# Altium schematic symbol library PMIC.SchLib: 38 symbols
Pins are listed as number, name and electrical type; pins without a type are passive.

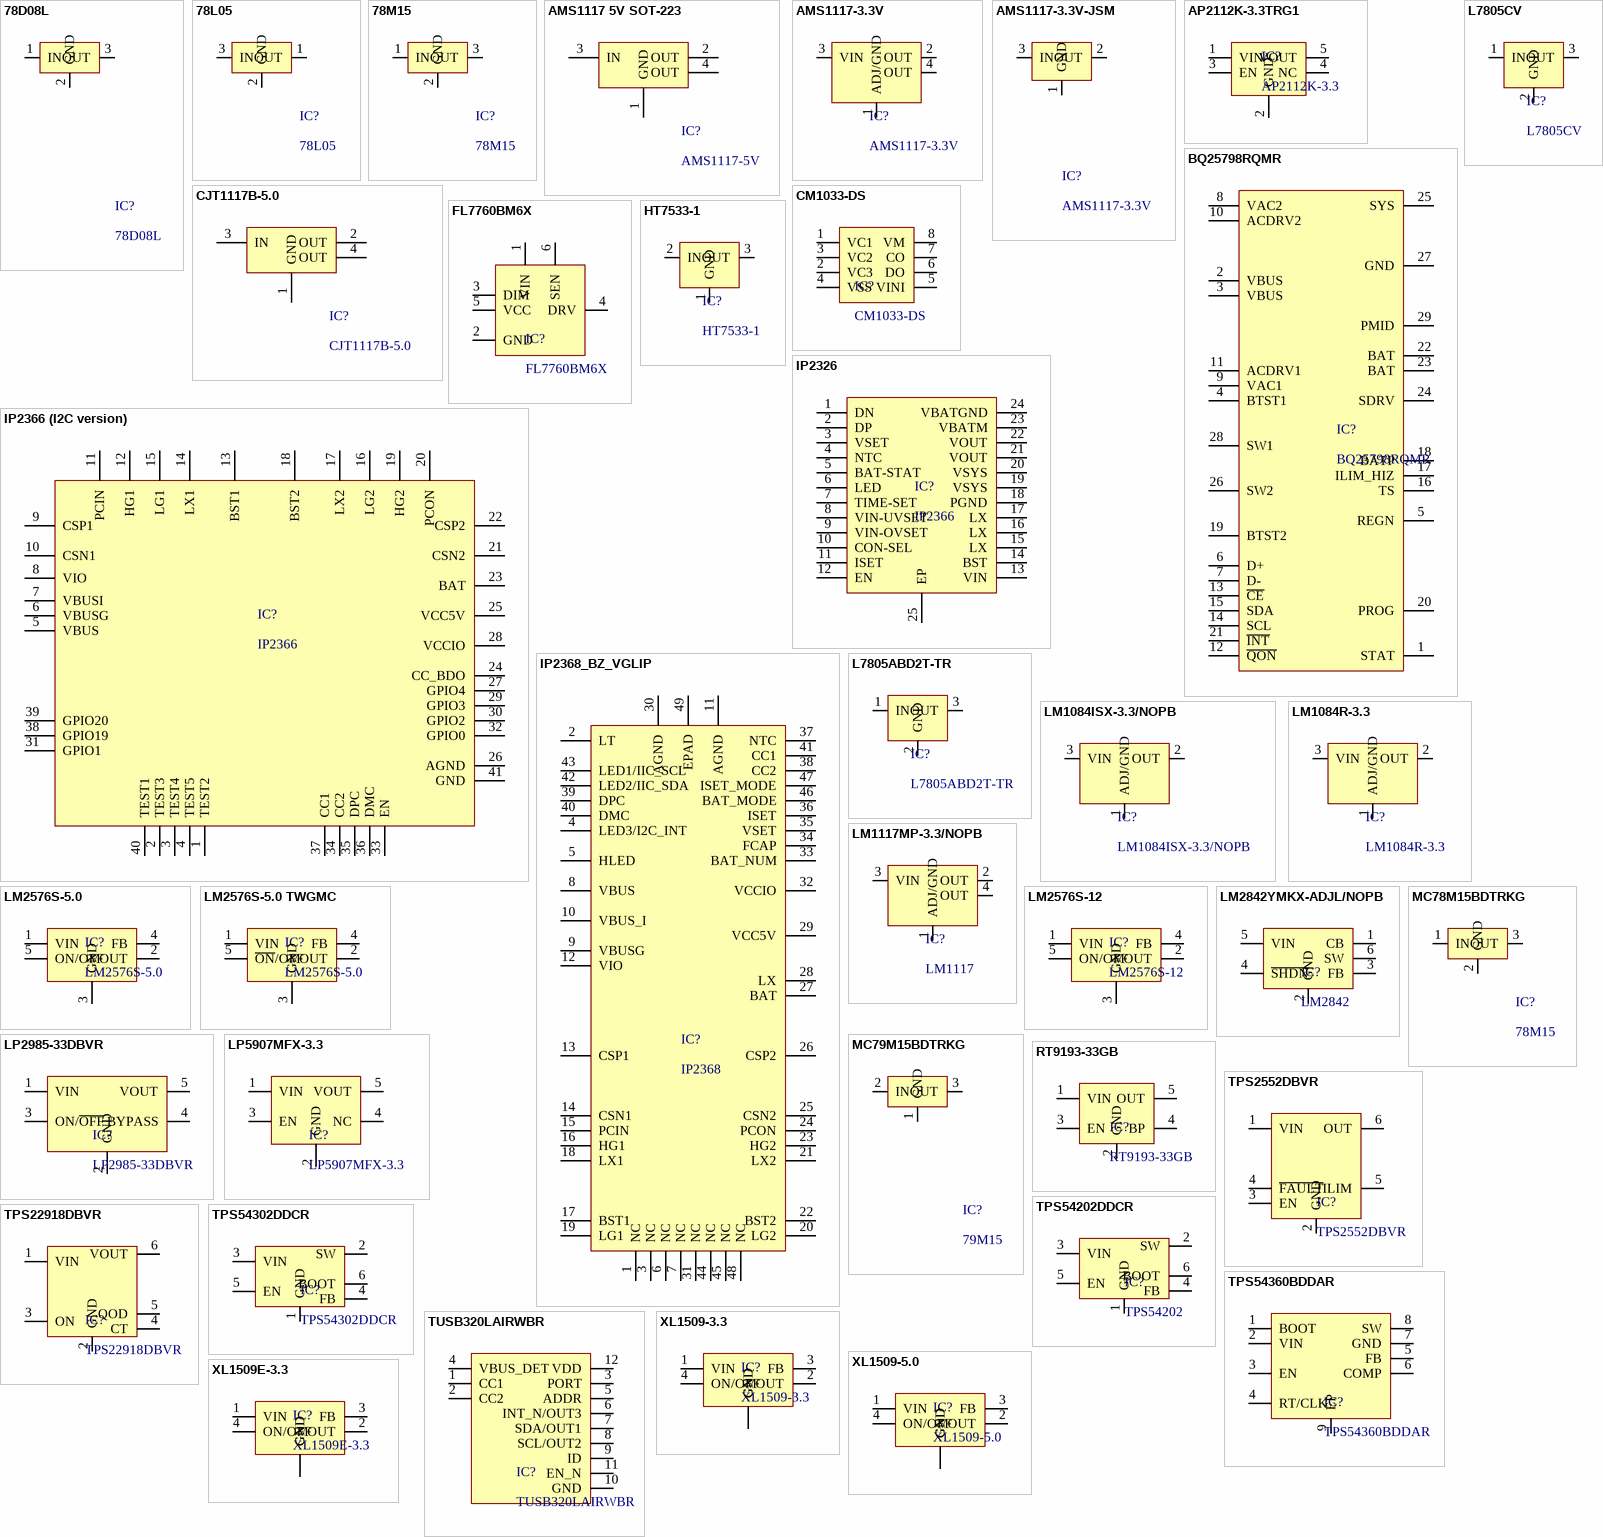
[diagram p0: symbols 78D08L to XL1509E-3.3]

## 78D08L
designator IC?
80dB@(120Hz) 1A Fixed 8V Positive 23V TO-252-2 Voltage Regulators - Linear, Low Drop Out (LDO) Regulators ROHS; Manufacturer: UMW; Mfr.Part #: 78D08L; Package: TO-252-2; LCSC Part #: C347286
footprint TO-252
pins: 1 IN, 2 GND, 3 OUT

## 78L05
designator IC?
100mA Fixed 5V Positive electrode 30V SOT-89 Voltage Regulators - Linear, Low Drop Out (LDO) Regulators ROHS; Manufacturer: MSKSEMI; Mfr.Part #: MS78L05; So_Chan_Dan: 3; So_Chan_Cam: 0; Name: 78L05; ComponentLink1Description: New link; ComponentLink1URL: https://www.lcsc.com/datasheet/lcsc_datasheet_2311231510_MSKSEMI-AMS1117-5-0V_C7473143.pdf; Package: SOT-89
footprint SOT-89
pins: 1 OUT, 2 GND, 3 IN

## 78M15
designator IC?
70dB@(120Hz) 1A Fixed 15V 35V TO-252 Voltage Regulators - Linear, Low Drop Out (LDO) Regulators ROHS; Manufacturer: UMW(Youtai Semiconductor Co., Ltd.); Mfr.Part #: 78M15; Package: TO-252
footprint TO-252
pins: 1 IN, 2 GND, 3 OUT

## AMS1117 5V SOT-223
designator IC?, comment AMS1117-5V
1A Fixed 5V Positive electrode 15V SOT-223 Voltage Regulators - Linear, Low Drop Out (LDO) Regulators ROHS; Manufacturer: MSKSEMI; Mfr.Part #: AMS1117-5.0(MS); So_Chan_Dan: 4; So_Chan_Cam: 0; Name: AMS1117-5.0(MS); ComponentLink1Description: New link; ComponentLink1URL: https://www.lcsc.com/product-detail/Voltage-Regulators-Linear-Low-Drop-Out-LDO-Regulators_MSKSEMI-AMS1117-5-0-MS_C20538892.html; Package: SOT-223
footprint SOT-223
pins: 1 GND, 2 OUT, 3 IN, 4 OUT

## AMS1117-3.3V
designator IC?
Linear Voltage Regulator IC Positive Fixed 1 Output 1A SOT-223; Manufacturer: MSKSEMI; Mfr.Part #: AMS1117-3.3V; Package: SOT-223; LCSC Part #: C5120765; DigiKey Part Number: NO; ComponentLink1Description: Link; ComponentLink1URL: https://www.lcsc.com/product-detail/C5120765.html?s_z=n_C5120765
footprint SOT-223
pins: 1 ADJ/GND, 2 OUT, 3 VIN, 4 OUT

## AMS1117-3.3V-JSM
designator IC?, comment AMS1117-3.3V
3.3V 15V Positive Fixed SOT-89 Voltage Regulators - Linear, Low Drop Out (LDO) Regulators RoHS; Manufacturer: JSMSEMI; Mfr.Part #: AMS1117-3.3V-JSM; LCSC Part #: C18190088; ComponentLink1Description: Link; ComponentLink1URL: https://www.lcsc.com/product-detail/C18190088.html?s_z=n_C18190088; Package: SOT-89; DigiKey Part Number: NO; ComponentLink2Description: Link 1; ComponentLink2URL: *
footprint SOT-89
pins: 1 GND, 2 OUT, 3 IN

## AP2112K-3.3TRG1
designator IC?, comment AP2112K-3.3
65dB@(1kHz) 600mA Fixed 3.3V Positive 6V SOT-25-5 Voltage Regulators - Linear, Low Drop Out (LDO) Regulators ROHS; Manufacturer: Diodes Incorporated; Mfr.Part #: AP2112K-3.3TRG1; Package: SOT-25-5; LCSC Part #: C51118
footprint SOT25-5
pins: 1 VIN, 2 GND, 3 EN, 4 NC, 5 VOUT

## BQ25798RQMR
designator IC?
Battery Charging IC Lithium Battery QFN-29(4x4); Manufacturer: TI; Package: QFN-29(4x4); LCSC Part #: C2876593; Mfr.Part #: BQ25798RQMR; DigiKey Part Number: 296-BQ25798RQMRTR-ND; ComponentLink1Description: Link; ComponentLink1URL: https://www.lcsc.com/product-detail/C2876593.html?s_z=n_BQ25798RQMR; ComponentLink2Description: Link 1; ComponentLink2URL: https://www.digikey.com/en/products/detail/texas-instruments/BQ25798RQMR/15666783?s=N4IgTCBcDaIEIEUwFYDsBOAHAJQQWRAF0BfIA
footprint 29-VQFN-HR (4x4)
pins: 1 STAT, 2 VBUS, 3 VBUS, 4 BTST1, 5 REGN, 6 D+, 7 D-, 8 VAC2, 9 VAC1, 10 ACDRV2, 11 ACDRV1, 12 ~{QON}, 13 ~{CE}, 14 SCL, 15 SDA, 16 TS, 17 ILIM_HIZ, 18 BATP, 19 BTST2, 20 PROG, 21 ~{INT}, 22 BAT, 23 BAT, 24 SDRV, 25 SYS, 26 SW2, 27 GND, 28 SW1, 29 PMID

## CJT1117B-5.0
designator IC?
75dB@(1kHz) 1A Fixed 5V Positive electrode 12V SOT-223 Voltage Regulators - Linear, Low Drop Out (LDO) Regulators ROHS; Manufacturer: Jiangsu Changjing Electronics Technology Co., Ltd.; Name: AMS1117-5.0(MS); So_Chan_Dan: 4; So_Chan_Cam: 0; Mfr.Part #: CJT1117B-5.0; ComponentLink1Description: New link; ComponentLink1URL: https://www.lcsc.com/product-detail/Voltage-Regulators-Linear-Low-Drop-Out-LDO-Regulators_Jiangsu-Changjing-Electronics-Technology-Co-Ltd-CJT1117B-5-0_C89273.html?s_z=n_CJT1117B; Package: SOT-223
footprint SOT-223
pins: 1 GND, 2 OUT, 3 IN, 4 OUT

## CM1033-DS
designator IC?
SOP-8 Battery Management ICs ROHS; Manufacturer: iCM; Mfr.Part #: CM1033-DS; Package: SOT-23-5; JLCPCB Part #: C2685513
footprint SOIC-8
pins: 1 VC1, 2 VC3, 3 VC2, 4 VSS, 5 VINI, 6 DO, 7 CO, 8 VM

## FL7760BM6X
designator IC?
High-Side Sensing Constant Current Buck Controller for High Switching Frequency LED Driver; Manufacturer: onsemi; Mfr.Part #: FL7760BM6X; Package: SOT-23-6; LCSC Part #: C367388; DigiKey Part Number: FL7760BM6XOSTR-ND; ComponentLink1Description: Link; ComponentLink1URL: https://www.lcsc.com/product-detail/C367388.html?s_z=n_FL7760&spm=wm.ssy.bg.0.xh&lcsc_vid=QVhYA1deElkMBVEAQVVWVAECEVVXUAcCTgNYUQVSEVAxVlNRQ1hYVFBfTlhcXzsOAxUeFF5JWBYZEEoKFBINSQcJGk4eFQsCAgIaSgADAwAHC0slRlleUFNRQlhADxALGw%3D%3D; ComponentLink2Description: Link 1; ComponentLink2URL: https://www.digikey.com/en/products/detail/onsemi/FL7760BM6X/7804375?s=N4IgTCBcDaIGIBkDsSBsAGAQgWVQDRAF0BfIA
footprint SOT23-6
pins: 1 VIN, 2 GND, 3 DIM, 4 DRV, 5 VCC, 6 SEN

## HT7533-1
designator IC?
100mA Fixed 3.3V Positive electrode 30V SOT-89 Voltage Regulators - Linear, Low Drop Out (LDO) Regulators ROHS; Manufacturer: UMW(Youtai Semiconductor Co., Ltd.); So_Chan_Dan: 3; So_Chan_Cam: 0; Mfr.Part #: HT7533-1; Package: SOT-89; Name: HT7533-1
footprint SOT-89
pins: 1 GND, 2 IN, 3 OUT

## IP2326
designator IC?, comment IP2366
2~3 1.5A VQFN-24-EP(4x4) Battery Management RoHS; Manufacturer: INJOINIC; Mfr.Part #: IP2326; Package: VQFN-24-EP(4x4); LCSC Part #: C2832094; DigiKey Part Number: NO
footprint QFN-24-EP(4x4)
pins: 1 DN, 2 DP, 3 VSET, 4 NTC, 5 BAT-STAT, 6 LED, 7 TIME-SET, 8 VIN-UVSET, 9 VIN-OVSET, 10 CON-SEL, 11 ISET, 12 EN, 13 VIN, 14 BST, 15 LX, 16 LX, 17 LX, 18 PGND, 19 VSYS, 20 VSYS, 21 VOUT, 22 VOUT, 23 VBATM, 24 VBATGND, 25 EP

## IP2366 (I2C version)
designator IC?, comment IP2366
QFN-40(5x5) Power Management - Specialized ROHS; Manufacturer: INJOINIC; Mfr.Part #: IP2366 (I2C version); So_Chan_Dan: 40; So_Chan_Cam: 0; Package: QFN-40(5x5); Name: IP2366
footprint QFN-40(5x5)
pins: 1 TEST2, 2 TEST3, 3 TEST4, 4 TEST5, 5 VBUS, 6 VBUSG, 7 VBUSI, 8 VIO, 9 CSP1, 10 CSN1, 11 PCIN, 12 HG1, 13 BST1, 14 LX1, 15 LG1, 16 LG2, 17 LX2, 18 BST2, 19 HG2, 20 PCON, 21 CSN2, 22 CSP2, 23 BAT, 24 CC_BDO, 25 VCC5V, 26 AGND, 27 GPIO4, 28 VCCIO, 29 GPIO3, 30 GPIO2, 31 GPIO1, 32 GPIO0, 33 EN, 34 CC2, 35 DPC, 36 DMC, 37 CC1, 38 GPIO19, 39 GPIO20, 40 TEST1, 41 GND

## IP2368_BZ_VGLIP
designator IC?, comment IP2368
Power management chip that supports multiple fast charging input and output protocols, multiple series-connected battery cells, and integrates step-up/step-down drivers.; Manufacturer: INJOINIC; Mfr.Part #: IP2368_BZ_VGLIP; Package: QFN-48(7x7); LCSC Part #: C5203723; DigiKey Part Number: NO; ComponentLink1Description: Link; ComponentLink1URL: https://www.lcsc.com/product-detail/C5203723.html?s_z=n_IP2368&spm=wm.ssy.bg.0.xh&lcsc_vid=RlMKBl1fQlJdAlBTQgUIUgUHQFUPBlJQFlJXVl0AT1cxVlNRQ1NdX1VXQFVaVjsOAxUeFF5JWBYZEEoKFBINSQcJGk4%3D; ComponentLink2Description: Link 1
footprint QFN-48-EP(7x7)-(IP2326)
pins: 1 NC, 2 LT, 3 NC, 4 LED3/I2C_INT, 5 HLED, 6 NC, 7 NC, 8 VBUS, 9 VBUSG, 10 VBUS_I, 11 AGND, 12 VIO, 13 CSP1, 14 CSN1, 15 PCIN, 16 HG1, 17 BST1, 18 LX1, 19 LG1, 20 LG2, 21 LX2, 22 BST2, 23 HG2, 24 PCON, 25 CSN2, 26 CSP2, 27 BAT, 28 LX, 29 VCC5V, 30 AGND, 31 NC, 32 VCCIO, 33 BAT_NUM, 34 FCAP, 35 VSET, 36 ISET, 37 NTC, 38 CC2, 39 DPC, 40 DMC, 41 CC1, 42 LED2/IIC_SDA, 43 LED1/IIC_SCL, 44 NC, 45 NC, 46 BAT_MODE, 47 ISET_MODE, 48 NC, 49 EPAD

## L7805ABD2T-TR
designator IC?
68dB@(120Hz) 1.5A Fixed 5V Positive electrode 35V TO-263-2 Voltage Regulators - Linear, Low Drop Out (LDO) Regulators ROHS; Manufacturer: STMicroelectronics; So_Chan_Dan: 3; So_Chan_Cam: 0; Mfr.Part #: L7805ABD2T-TR; Package: TO-263; Name: L7805ABD2T-TR
footprint TO-263
pins: 1 IN, 2 GND, 3 OUT

## L7805CV
designator IC?
62dB@(120Hz) 1.5A Fixed 5V Positive electrode 35V TO-220 Voltage Regulators - Linear, Low Drop Out (LDO) Regulators ROHS; Manufacturer: STMicroelectronics; So_Chan_Dan: 0; So_Chan_Cam: 3; Mfr.Part #: L7805CV; Package: TO-220; Name: L7805CV
footprint TO-220
pins: 1 IN, 2 GND, 3 OUT

## LM1084ISX-3.3/NOPB
designator IC?
Linear Voltage Regulator IC Positive Fixed 1 Output 5A TO-263-3; Manufacturer: TI; Mfr.Part #: LM1084ISX-3.3/NOPB; Package: TO-263-3; LCSC Part #: C2860175; DigiKey Part Number: 296-35390-2-ND; ComponentLink1Description: Link 1; ComponentLink1URL: https://www.digikey.com/en/products/detail/texas-instruments/LM1084ISX-3-3-NOPB/366706; ComponentLink2Description: Link; ComponentLink2URL: https://www.lcsc.com/product-detail/C2860175.html?s_z=n_LM1084ISX-3.3%252FNOPB
footprint TO-263-3
pins: 1 ADJ/GND, 2 OUT, 3 VIN

## LM1084R-3.3
designator IC?
12V Positive Fixed 3.3V TO-263-3 Voltage Regulators - Linear, Low Drop Out (LDO) Regulators RoHS; Manufacturer: HTC; Mfr.Part #: LM1084R-3.3; Package: TO-263-3; LCSC Part #: C262795; DigiKey Part Number: NO; ComponentLink1Description: Link 1; ComponentLink1URL: https://www.lcsc.com/product-detail/C262795.html?s_z=n_lm1084
footprint TO-263-3
pins: 1 ADJ/GND, 2 OUT, 3 VIN

## LM1117MP-3.3/NOPB
designator IC?, comment LM1117
75dB@(120Hz) 800mA Fixed 3.3V Positive electrode 15V SOT-223-4 Voltage Regulators - Linear, Low Drop Out (LDO) Regulators ROHS; Manufacturer: Texas Instruments; Mfr.Part #: LM1117MP-3.3/NOPB; Package: SOT-223-4; LCSC Part #: C2860766
footprint SOT-223
pins: 1 ADJ/GND, 2 OUT, 3 VIN, 4 OUT

## LM2576S-5.0
designator IC?
47kHz~58kHz Buck Adjustable 3.5A 5V TO-263-5L Voltage Regulators - DC DC Switching Regulators RoHS; Manufacturer: HXY MOSFET; Mfr.Part #: LM2576S-5.0; Package: TO-263-5L; LCSC Part #: C5349983; DigiKey Part Number: NO; ComponentLink1Description: Link; ComponentLink1URL: https://www.lcsc.com/product-detail/C5349983.html?s_z=n_LM2576S-5.0; ComponentLink2Description: Link 1
footprint TO-263-5L
pins: 1 VIN, 2 VOUT, 3 GND, 4 FB, 5 ON/OFF

## LM2576S-5.0 TWGMC
designator IC?, comment LM2576S-5.0
Step-down type Fixed 5V 40V~57V TO-263-5 DC-DC Converters ROHS; Manufacturer: TWGMC; Mfr.Part #: LM2576S-5.0; Package: TO-263-5
footprint TO-263-5L
pins: 1 VIN, 2 VOUT, 3 GND, 4 FB, 5 ~{ON}/OFF

## LM2576S-12
designator IC?
Buck Switching Regulator IC Fixed 12V 1 Output 3A TO-263-5L; Manufacturer: HXY MOSFET; Mfr.Part #: LM2576S-12; Package: TO-263-5L; LCSC Part #: C22386541; DigiKey Part Number: NO; ComponentLink1Description: Link; ComponentLink1URL: https://www.lcsc.com/product-detail/C22386541.html?s_z=n_C22386541; ComponentLink2Description: Link 1
footprint TO-263-5L
pins: 1 VIN, 2 VOUT, 3 GND, 4 FB, 5 ON/OFF

## LM2842YMKX-ADJL/NOPB
designator IC?, comment LM2842
Step-down type 600mA 765mV~34V 4.5V~42V TSOT-23-6L DC-DC Converters ROHS; Manufacturer: Texas Instruments; Mfr.Part #: LM2842YMKX-ADJL/NOPB; Package: TSOT-23-6L; LCSC Part #: C545233
footprint SOT23-6
pins: 1 CB, 2 GND, 3 FB, 4 ~{SHDN}, 5 VIN, 6 SW

## LP2985-33DBVR
designator IC?
45dB@(1kHz) 150mA Fixed 3.3V Positive electrode 16V SOT-23-5 Voltage Regulators - Linear, Low Drop Out (LDO) Regulators ROHS; Manufacturer: Texas Instruments; So_Chan_Dan: 5; So_Chan_Cam: 0; Mfr.Part #: LP2985-33DBVR; Package: SOT-23-5; Name: LP2985-33DBVR
footprint SOT23-5
pins: 1 VIN, 2 GND, 3 ON/~{OFF}, 4 BYPASS, 5 VOUT

## LP5907MFX-3.3
designator IC?
75dB@(1kHz) Positive Fixed 3.3V SOT-23-5 Voltage Regulators - Linear, Low Drop Out (LDO) Regulators ROHS; Manufacturer: TECH PUBLIC; Mfr.Part #: LP5907MFX-3.3; Package: SOT-23-5; LCSC Part #: C23380874; DigiKey Part Number: 296-38557-2-ND
footprint SOT23-5
pins: 1 VIN, 2 GND, 3 EN, 4 NC, 5 VOUT

## MC78M15BDTRKG
designator IC?, comment 78M15
15V 30V Positive Fixed DPAK-3 Voltage Regulators - Linear, Low Drop Out (LDO) Regulators RoHS; Manufacturer: onsemi; Mfr.Part #: MC78M15BDTRKG; LCSC Part #: C127442; DigiKey Part Number: MC78M15BDTRKGOSTR-ND; ComponentLink1Description: Link; ComponentLink1URL: https://www.lcsc.com/product-detail/C127442.html?s_z=n_78M15; Package: DPAK-3; ComponentLink2Description: Link 1; ComponentLink2URL: https://www.digikey.com/en/products/detail/onsemi/MC78M15BDTRKG/1481485?s=N4IgTCBcDaILIGEDsAOOBGArAIQCIBUAlAaQHEQBdAXyA
footprint TO-252
pins: 1 IN, 2 GND, 3 OUT

## MC79M15BDTRKG
designator IC?, comment 79M15
15V 30V Negative Fixed TO-252(DPAK) Voltage Regulators - Linear, Low Drop Out (LDO) Regulators RoHS; Manufacturer: onsemi; Mfr.Part #: MC79M15BDTRKG; LCSC Part #: C179584; DigiKey Part Number: MC79M15BDTRKGOSTR-ND; ComponentLink1Description: Link; ComponentLink1URL: https://www.lcsc.com/product-detail/C179584.html?s_z=n_79M15; Package: TO-252(DPAK); ComponentLink2Description: Link 1; ComponentLink2URL: https://www.digikey.com/en/products/detail/onsemi/MC79M15BDTRKG/1481635?s=N4IgTCBcDaILIGEDsBOOBGArAIQCIBUAlAaQHEQBdAXyA
footprint TO-252
pins: 1 GND, 2 IN, 3 OUT

## RT9193-33GB
designator IC?
-50dB@(10kHz) Positive Fixed 3.3V SOT-23-5 Voltage Regulators - Linear, Low Drop Out (LDO) Regulators RoHS; Manufacturer: RICHTEK; Mfr.Part #: RT9193-33GB; Package: SOT-23-5; LCSC Part #: C15651; DigiKey Part Number: 1028-1014-2-ND
footprint SOT23-5
pins: 1 VIN, 2 GND, 3 EN, 4 BP, 5 OUT

## TPS2552DBVR
designator IC?
2.5V~6.5V 1 Active Low 1.5A High Side Switch SOT-23-6 Power Distribution Switches, Load Drivers RoHS; Manufacturer: TI; Mfr.Part #: TPS2552DBVR; Package: SOT-23-6; LCSC Part #: C46506; DigiKey Part Number: 296-37894-2-ND; ComponentLink1Description: Link; ComponentLink1URL: https://www.lcsc.com/product-detail/C46506.html?s_z=n_TPS2552; ComponentLink2Description: Link 1; ComponentLink2URL: https://www.digikey.com/en/products/detail/texas-instruments/TPS2552DBVR/2047892
footprint SOT23-6
pins: 1 VIN, 2 GND, 3 EN, 4 ~{FAULT}, 5 ILIM, 6 OUT

## TPS22918DBVR
designator IC?
1V~5.5V 1 Active High 2A Load Switch SOT-23-6 Power Distribution Switches, Load Drivers RoHS; Manufacturer: TI; Mfr.Part #: TPS22918DBVR; Package: SOT-23-6; LCSC Part #: C131941; DigiKey Part Number: 296-TPS54202DDCRTR-ND; ComponentLink1Description: Link; ComponentLink1URL: https://www.lcsc.com/product-detail/C131941.html?s_z=n_TPS22918; ComponentLink2Description: Link 1; ComponentLink2URL: https://www.digikey.com/en/products/detail/texas-instruments/TPS22918DBVR/5994601?s=N4IgTCBcDaICoAUDKYwE4CMAOAIgIQDUAlEAXQF8g
footprint SOT23-6
pins: 1 VIN, 2 GND, 3 ON, 4 CT, 5 QOD, 6 VOUT

## TPS54202DDCR
designator IC?, comment TPS54202
Step-down type 600mA 765mV~34V 4.5V~42V TSOT-23-6L DC-DC Converters ROHS; Manufacturer: TI; Mfr.Part #: TPS54202DDCR; Package: SOT-23-6; LCSC Part #: C191884; DigiKey Part Number: 296-TPS54202DDCRTR-ND
footprint SOT23-6
pins: 1 GND, 2 SW, 3 VIN, 4 FB, 5 EN, 6 BOOT

## TPS54302DDCR
designator IC?
4.5-V to 28-V Input, 3-A Output, EMI-Friendly Synchronous Step-Down Converter; Manufacturer: TI; Mfr.Part #: TPS54302DDCR; Package: TSOT-23-6; LCSC Part #: C311983; DigiKey Part Number: 296-46237-2-ND; ComponentLink1Description: Link; ComponentLink1URL: https://www.lcsc.com/product-detail/C311983.html?s_z=n_TPS5430; ComponentLink2Description: Link 1; ComponentLink2URL: https://www.digikey.com/en/products/detail/texas-instruments/TPS54302DDCR/6572466?s=N4IgTCBcDa4JwDYC0AWBYDMB2JYkDkAREAXQF8g
footprint SOT23-6
footprint TSOT-23-6
pins: 1 GND, 2 SW, 3 VIN, 4 FB, 5 EN, 6 BOOT

## TPS54360BDDAR
designator IC?
2.5MHz Buck Adjustable 800mV~58.8V 3.5A SOIC-8-EP Voltage Regulators - DC DC Switching Regulators RoHS; Manufacturer: TI; Mfr.Part #: TPS54360BDDAR; Package: SOIC-8-EP; LCSC Part #: C524806; DigiKey Part Number: 296-TPS54360BDDARTR-ND; ComponentLink1Description: Link; ComponentLink1URL: https://www.lcsc.com/product-detail/C524806.html?s_z=n_TPS54360; ComponentLink2Description: Link 1; ComponentLink2URL: https://www.digikey.com/en/products/detail/texas-instruments/TPS54360BDDAR/10434703?s=N4IgTCBcDaICoAUDKBWALAZgGwAYBCAIgQIIBKIAugL5A
footprint ESOP-8
pins: 1 BOOT, 2 VIN, 3 EN, 4 RT/CLK, 5 FB, 6 COMP, 7 GND, 8 SW, 9 EP

## TUSB320LAIRWBR
designator IC?
I2C -40℃~+85℃ 3A X2-QFN-12(1.6x1.6) Specialized RoHS; Manufacturer: TI; Mfr.Part #: TPS22918DBVR; Package: X2-QFN-12(1.6x1.6); LCSC Part #: C132554; DigiKey Part Number: 296-TUSB320LAIRWBRTR-ND; ComponentLink1Description: Link; ComponentLink1URL: https://www.lcsc.com/product-detail/C132554.html?s_z=n_TUSB320LAIRWBR; ComponentLink2Description: Link 1; ComponentLink2URL: https://www.digikey.com/en/products/detail/texas-instruments/TUSB320LAIRWBR/5722618?s=N4IgTCBcDaICoFUDKAhAzGADAGQIIEkAlAdRUJAF0BfIA
footprint 12-X2QFN (1.6x1.6)
pins: 1 CC1, 2 CC2, 3 PORT, 4 VBUS_DET, 5 ADDR, 6 INT_N/OUT3, 7 SDA/OUT1, 8 SCL/OUT2, 9 ID, 10 GND, 11 EN_N, 12 VDD

## XL1509-3.3
designator IC?
Step-down type Fixed 2A 3.3V 4.5V~40V SOP-8 DC-DC Converters ROHS; Manufacturer: UMW(Youtai Semiconductor Co., Ltd.); So_Chan_Dan: 9; So_Chan_Cam: 0; Mfr.Part #: XL1509-3.3; Package: SOP-8; Name: XL1509-3.3
footprint SOIC-8
pins: 1 VIN, 2 VOUT, 3 FB, 4 ON/OFF, 5 GND, 6 GND, 7 GND, 8 GND

## XL1509-5.0
designator IC?
Step-down type Fixed 5V 2A 4.5V~40V SOIC-8 DC-DC Converters ROHS; Manufacturer: UMW(Youtai Semiconductor Co., Ltd.); So_Chan_Dan: 9; So_Chan_Cam: 0; Mfr.Part #: XL1509-5.0; Package: SOP-8; Name: XL1509-5.0
footprint SOIC-8
pins: 1 VIN, 2 VOUT, 3 FB, 4 ON/OFF, 5 GND, 6 GND, 7 GND, 8 GND

## XL1509E-3.3
designator IC?
Step-down type Fixed 3.3V 2A 4.5V~40V ESOP-8 DC-DC Converters ROHS; Manufacturer: UMW(Youtai Semiconductor Co., Ltd.); So_Chan_Dan: 7; So_Chan_Cam: 0; Mfr.Part #: XL1509E-3.3; Package: ESOP-8; Name: XL1509E-3.3
footprint ESOP-8
pins: 1 VIN, 2 VOUT, 3 FB, 4 ON/OFF, 5 GND, 6 GND, 7 GND, 8 GND